# EAGLE library part MOLEX_SL_15 (library molex-sl-connectors_jw)
Molex SL-Series PCB Header, 15-Pos, 0.1" (2.54mm) Centers
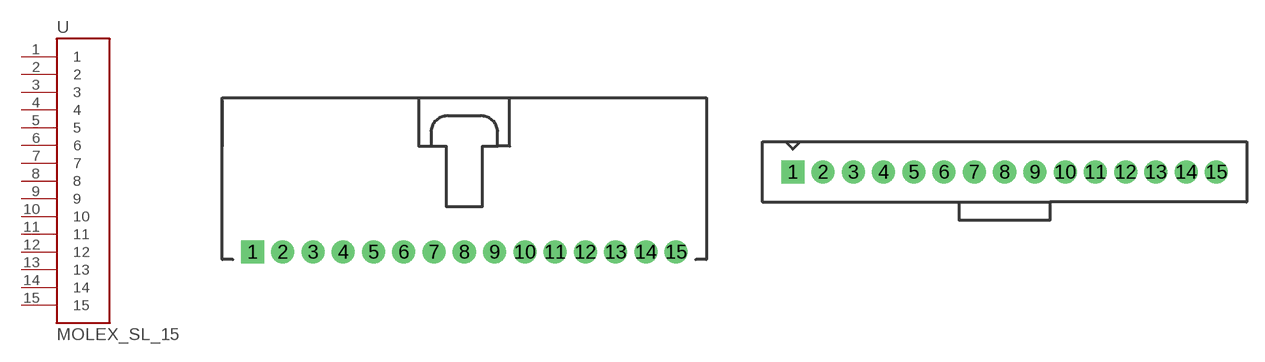
[diagram p9: symbol with the pads of SL_70553_15; footprints SL_70553_15, SL_70543_15]

Designator prefix -

## MOLEX_SL_15-70553  [SL_70553_15]
1  1
2  2
3  3
4  4
5  5
6  6
7  7
8  8
9  9
10  10
11  11
12  12
13  13
14  14
15  15

## MOLEX_SL_15-70543-74095  [SL_70543_15]
Pads as for SL_70553_15

## MOLEX_SL_15-70541-70545  [SL_70541_15]
Pads as for SL_70553_15

## MOLEX_SL_15-70551  [SL_70551_15]
Pads as for SL_70553_15

## MOLEX_SL_15-70555  [SL_70555_15]
Pads as for SL_70553_15

## MOLEX_SL_15-70634  [SL_70634_15]
Pads as for SL_70553_15

## MOLEX_SL_15-87898  [SL_87898_15]
Pads as for SL_70553_15

## Footprint SL_70553_15 (pad centres in mm)
Right-Angle Header w/ Latch (no pegs) 70553-0014 70553-0049 70553-0119 70553-0154
drill 1.1 pad 1.93 square: 1 -17.78,-5.08
drill 1.1 pad 1.93: 2 -15.24,-5.08; 3 -12.7,-5.08; 4 -10.16,-5.08; 5 -7.62,-5.08; 6 -5.08,-5.08; 7 -2.54,-5.08; 8 0,-5.08; 9 2.54,-5.08; 10 5.08,-5.08; 11 7.62,-5.08; 12 10.16,-5.08; 13 12.7,-5.08; 14 15.24,-5.08; 15 17.78,-5.08

## Footprint SL_70543_15 (pad centres in mm)
Vertical Header w/ Latch & Optional Compliant Pins (no pegs) Normal Pins: 70543-0014 70543-0049 70543-0084 70543-0119 70543-0154 70543-0178 70543-0213 70543-0261 70543-0285 70543-0309 Compliant Pins 74095-0015 74095-0045 74095-0075 74095-1045 74095-1075
drill 1.1 pad 1.93 square: 1 -17.78,1.27
drill 1.1 pad 1.93: 2 -15.24,1.27; 3 -12.7,1.27; 4 -10.16,1.27; 5 -7.62,1.27; 6 -5.08,1.27; 7 -2.54,1.27; 8 0,1.27; 9 2.54,1.27; 10 5.08,1.27; 11 7.62,1.27; 12 10.16,1.27; 13 12.7,1.27; 14 15.24,1.27; 15 17.78,1.27

## Footprint SL_70541_15 (pad centres in mm)
Vertical Header w/ Latch & Pegs With Split Pegs: 70541-0014 70541-0049 70541-0084 With Tri-Pegs: 70545-0014 70545-0049 70545-0084
drill 1.1 pad 1.93 square: 1 -17.78,1.27
drill 1.1 pad 1.93: 2 -15.24,1.27; 3 -12.7,1.27; 4 -10.16,1.27; 5 -7.62,1.27; 6 -5.08,1.27; 7 -2.54,1.27; 8 0,1.27; 9 2.54,1.27; 10 5.08,1.27; 11 7.62,1.27; 12 10.16,1.27; 13 12.7,1.27; 14 15.24,1.27; 15 17.78,1.27
hole 3.404 at -21.844,0.508
hole 3.404 at 21.844,0.508

## Footprint SL_70551_15 (pad centres in mm)
Right-Angle Header w/ Latch & Split Pegs 70551-0014 70551-0049 70551-0084
drill 1.1 pad 1.93 square: 1 -17.78,-5.08
drill 1.1 pad 1.93: 2 -15.24,-5.08; 3 -12.7,-5.08; 4 -10.16,-5.08; 5 -7.62,-5.08; 6 -5.08,-5.08; 7 -2.54,-5.08; 8 0,-5.08; 9 2.54,-5.08; 10 5.08,-5.08; 11 7.62,-5.08; 12 10.16,-5.08; 13 12.7,-5.08; 14 15.24,-5.08; 15 17.78,-5.08
hole 3.404 at -19.05,3.556
hole 3.404 at 19.05,3.556

## Footprint SL_70555_15 (pad centres in mm)
Right-Angle Header w/ Latch & Tri-Pegs 70555-0014 70555-0049 70555-0084 70555-5014
drill 1.1 pad 1.93 square: 1 -17.78,-5.08
drill 1.1 pad 1.93: 2 -15.24,-5.08; 3 -12.7,-5.08; 4 -10.16,-5.08; 5 -7.62,-5.08; 6 -5.08,-5.08; 7 -2.54,-5.08; 8 0,-5.08; 9 2.54,-5.08; 10 5.08,-5.08; 11 7.62,-5.08; 12 10.16,-5.08; 13 12.7,-5.08; 14 15.24,-5.08; 15 17.78,-5.08
hole 3.404 at -19.177,3.556
hole 3.404 at 19.177,3.556

## Footprint SL_70634_15 (pad centres in mm)
SMD Right-Angle Header w/ Latch & PCB Pegs 70634-0014 70634-0049 70634-0084 70634-0119 70634-0154 70634-0189 70634-0215
smd 1.651 x 5.334: 1 -17.78,-7.62; 2 -15.24,-7.62; 3 -12.7,-7.62; 4 -10.16,-7.62; 5 -7.62,-7.62; 6 -5.08,-7.62; 7 -2.54,-7.62; 8 0,-7.62; 9 2.54,-7.62; 10 5.08,-7.62; 11 7.62,-7.62; 12 10.16,-7.62; 13 12.7,-7.62; 14 15.24,-7.62; 15 17.78,-7.62
hole 3.404 at -19.202,3.048
hole 3.404 at 19.177,3.099

## Footprint SL_87898_15 (pad centres in mm)
SMD Vertical Header (no latch or pegs) Package also includes Pick-N-Place Cap Tube packaging w/o Pick-N-Place Cap: 87898-1521 87898-1522 87898-1524 87898-1525 87898-1526 Tube packaging w/ Pick-N-Place Cap: 87898-1531 87898-1532 87898-1534 87898-1535 87898-1536 Tape & Reel packaging w/ Pick-N-Place Cap: 87898-1551 87898-1552 87898-1554 87898-1555 87898-1556
smd 1.27 x 2.946: 1 -17.78,1.803; 2 -15.24,-1.803; 3 -12.7,1.803; 4 -10.16,-1.803; 5 -7.62,1.803; 6 -5.08,-1.803; 7 -2.54,1.803; 8 0,-1.803; 9 2.54,1.803; 10 5.08,-1.803; 11 7.62,1.803; 12 10.16,-1.803; 13 12.7,1.803; 14 15.24,-1.803; 15 17.78,1.803